# Altium schematic symbol library LAN PHYs.SchLib: 1 symbol
Pins are listed as number, name and electrical type; pins without a type are passive.

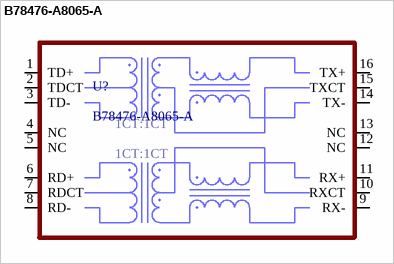
[diagram p0: symbol B78476-A8065-A]

## B78476-A8065-A
designator U?
10/100 Base-T Transformer
footprint 10/100 Base-T Transformer 16 pin
pins: 1 TD+, 2 TDCT, 3 TD-, 4 NC, 5 NC, 6 RD+, 7 RDCT, 8 RD-, 9 RX-, 10 RXCT, 11 RX+, 12 NC, 13 NC, 14 TX-, 15 TXCT, 16 TX+
text: 1CT:1CT